# Altium footprint library 2.06-BGA、LGA、WCSP封装、DDR~LPDDR4_Nand Flash.PcbLib: 27 footprints (part 1 of 2)
Each footprint in its own frame and in the unit in brackets; x right, y up, seen from the top. Pads: shape width x height; smd on the part's side, far side on the other; paste and mask are expansions set on the pad; w line width, h text height; cw(c..) or ccw(c..) is an arc to the next point about the centre after c.
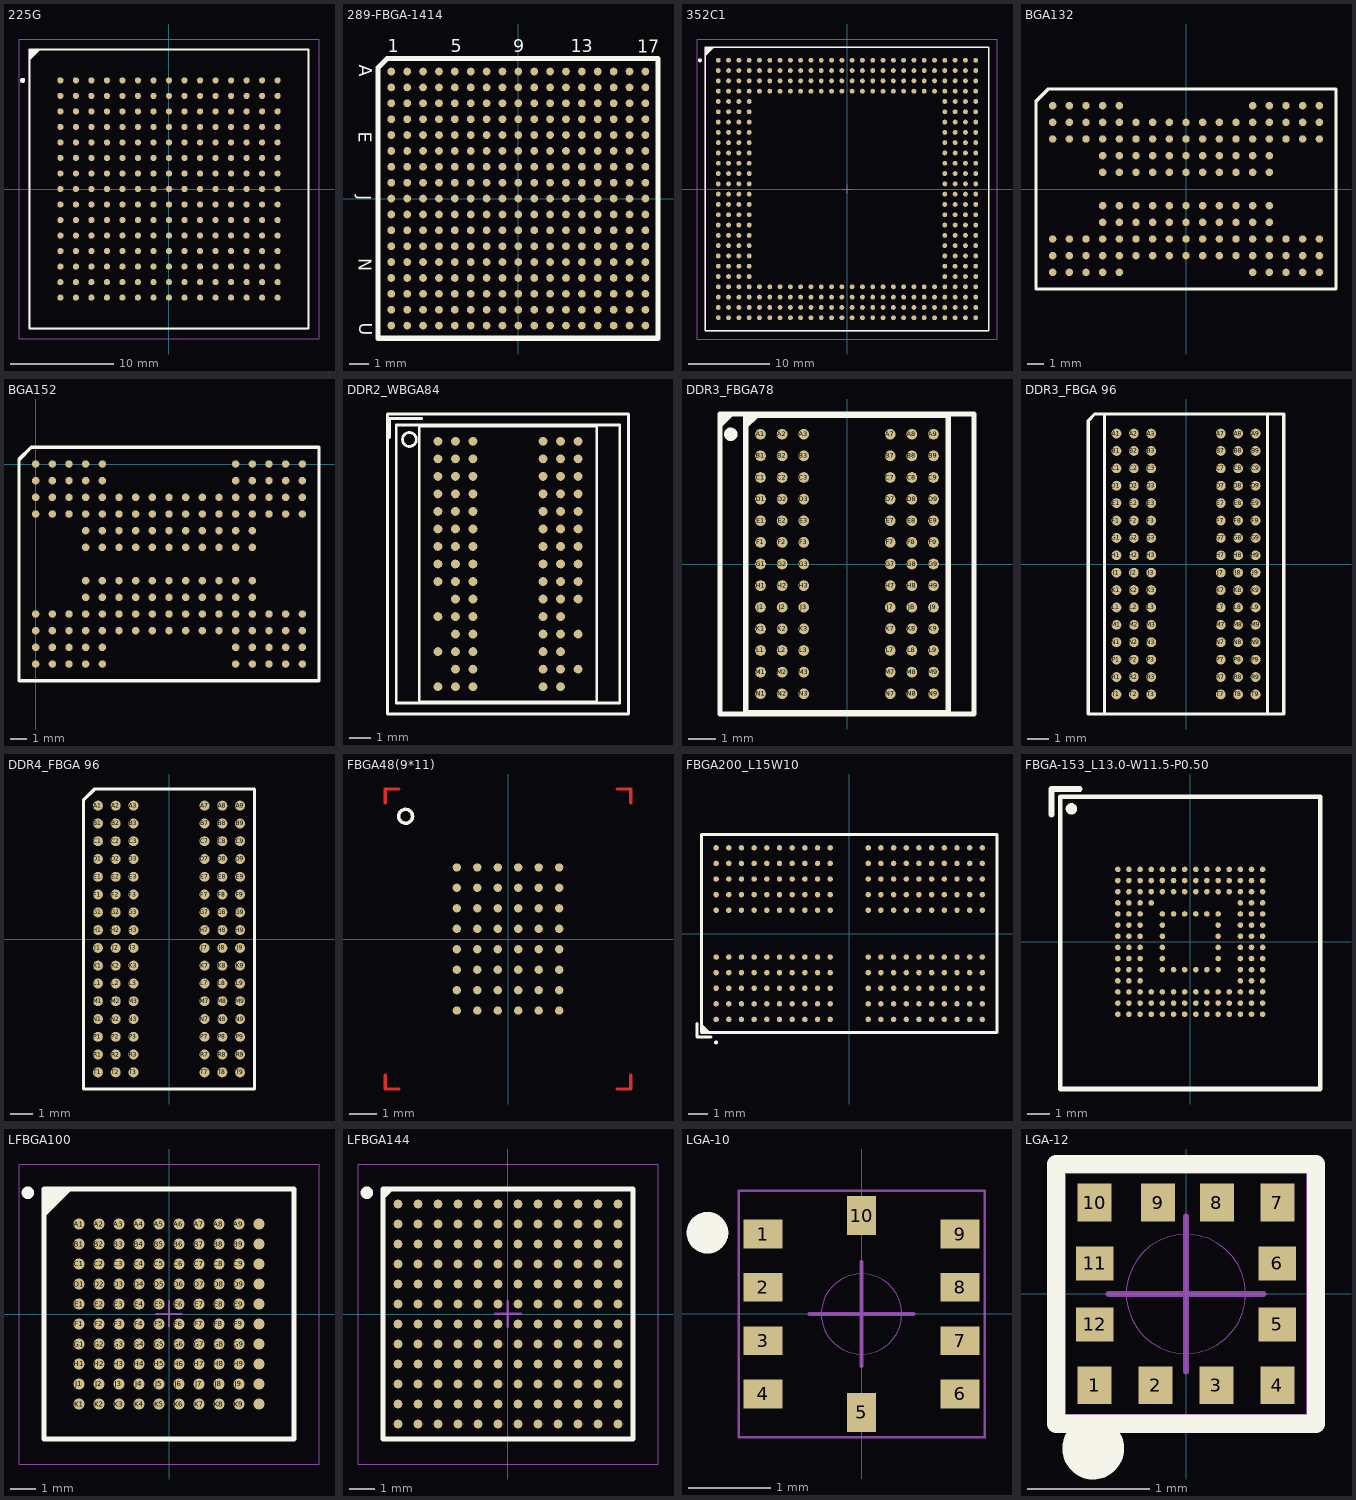
[diagram p0: the footprints below, top view; thin cyan lines are the x and y axes]

## 225G [mm] "225-Ball Ball Grid Array 1.5 mm Pitch"
height 1.53
pads (225):
  round 0.6 smd: A1(-10.5,10.5) A2(-9,10.5) A3(-7.5,10.5) A4(-6,10.5) A5(-4.5,10.5) A6(-3,10.5) A7(-1.5,10.5) A8(0,10.5) A9(1.5,10.5) A10(3,10.5) A11(4.5,10.5) A12(6,10.5) A13(7.5,10.5) A14(9,10.5) A15(10.5,10.5) B1(-10.5,9) B2(-9,9) B3(-7.5,9) B4(-6,9) B5(-4.5,9) B6(-3,9) B7(-1.5,9) B8(0,9) B9(1.5,9) B10(3,9) B11(4.5,9) B12(6,9) B13(7.5,9) B14(9,9) B15(10.5,9) C1(-10.5,7.5) C2(-9,7.5) C3(-7.5,7.5) C4(-6,7.5) C5(-4.5,7.5) C6(-3,7.5) C7(-1.5,7.5) C8(0,7.5) C9(1.5,7.5) C10(3,7.5) C11(4.5,7.5) C12(6,7.5) C13(7.5,7.5) C14(9,7.5) C15(10.5,7.5) D1(-10.5,6) D2(-9,6) D3(-7.5,6) D4(-6,6) D5(-4.5,6) D6(-3,6) D7(-1.5,6) D8(0,6) D9(1.5,6) D10(3,6) D11(4.5,6) D12(6,6) D13(7.5,6) D14(9,6) D15(10.5,6) E1(-10.5,4.5) E2(-9,4.5) E3(-7.5,4.5) E4(-6,4.5) E5(-4.5,4.5) E6(-3,4.5) E7(-1.5,4.5) E8(0,4.5) E9(1.5,4.5) E10(3,4.5) E11(4.5,4.5) E12(6,4.5) E13(7.5,4.5) E14(9,4.5) E15(10.5,4.5) F1(-10.5,3) F2(-9,3) F3(-7.5,3) F4(-6,3) F5(-4.5,3) F6(-3,3) F7(-1.5,3) F8(0,3) F9(1.5,3) F10(3,3) F11(4.5,3) F12(6,3) F13(7.5,3) F14(9,3) F15(10.5,3) G1(-10.5,1.5) G2(-9,1.5) G3(-7.5,1.5) G4(-6,1.5) G5(-4.5,1.5) G6(-3,1.5) G7(-1.5,1.5) G8(0,1.5) G9(1.5,1.5) G10(3,1.5) G11(4.5,1.5) G12(6,1.5) G13(7.5,1.5) G14(9,1.5) G15(10.5,1.5) H1(-10.5,0) H2(-9,0) H3(-7.5,0) H4(-6,0) H5(-4.5,0) H6(-3,0) H7(-1.5,0) H8(0,0) H9(1.5,0) H10(3,0) H11(4.5,0) H12(6,0) H13(7.5,0) H14(9,0) H15(10.5,0) J1(-10.5,-1.5) J2(-9,-1.5) J3(-7.5,-1.5) J4(-6,-1.5) J5(-4.5,-1.5) J6(-3,-1.5) J7(-1.5,-1.5) J8(0,-1.5) J9(1.5,-1.5) J10(3,-1.5) J11(4.5,-1.5) J12(6,-1.5) J13(7.5,-1.5) J14(9,-1.5) J15(10.5,-1.5) K1(-10.5,-3) K2(-9,-3) K3(-7.5,-3) K4(-6,-3) K5(-4.5,-3) K6(-3,-3) K7(-1.5,-3) K8(0,-3) K9(1.5,-3) K10(3,-3) K11(4.5,-3) K12(6,-3) K13(7.5,-3) K14(9,-3) K15(10.5,-3) L1(-10.5,-4.5) L2(-9,-4.5) L3(-7.5,-4.5) L4(-6,-4.5) L5(-4.5,-4.5) L6(-3,-4.5) L7(-1.5,-4.5) L8(0,-4.5) L9(1.5,-4.5) L10(3,-4.5) L11(4.5,-4.5) L12(6,-4.5) L13(7.5,-4.5) L14(9,-4.5) L15(10.5,-4.5) M1(-10.5,-6) M2(-9,-6) M3(-7.5,-6) M4(-6,-6) M5(-4.5,-6) M6(-3,-6) M7(-1.5,-6) M8(0,-6) M9(1.5,-6) M10(3,-6) M11(4.5,-6) M12(6,-6) M13(7.5,-6) M14(9,-6) M15(10.5,-6) N1(-10.5,-7.5) N2(-9,-7.5) N3(-7.5,-7.5) N4(-6,-7.5) N5(-4.5,-7.5) N6(-3,-7.5) N7(-1.5,-7.5) N8(0,-7.5) N9(1.5,-7.5) N10(3,-7.5) N11(4.5,-7.5) N12(6,-7.5) N13(7.5,-7.5) N14(9,-7.5) N15(10.5,-7.5) P1(-10.5,-9) P2(-9,-9) P3(-7.5,-9) P4(-6,-9) P5(-4.5,-9) P6(-3,-9) P7(-1.5,-9) P8(0,-9) P9(1.5,-9) P10(3,-9) P11(4.5,-9) P12(6,-9) P13(7.5,-9) P14(9,-9) P15(10.5,-9) R1(-10.5,-10.5) R2(-9,-10.5) R3(-7.5,-10.5) R4(-6,-10.5) R5(-4.5,-10.5) R6(-3,-10.5) R7(-1.5,-10.5) R8(0,-10.5) R9(1.5,-10.5) R10(3,-10.5) R11(4.5,-10.5) R12(6,-10.5) R13(7.5,-10.5) R14(9,-10.5) R15(10.5,-10.5)
Top Overlay:
  circle w0.25: c-14.15,10.5 r0.125
  region: -12.5,13.5 -13.5,12.5 -13.5,13.5
  lines w0.2: -13.5,12.5 -12.5,13.5 ; -13.5,-13.5 13.5,-13.5 13.5,13.5 -13.5,13.5 -13.5,-13.5
Mechanical 13:
  lines w0.1: -13.5,-13.5 13.5,-13.5 13.5,13.5 -13.5,13.5 -13.5,-13.5
Mechanical 15:
  lines w0.1: -0.5,0 0.5,0 ; 0,-0.5 0,0.5 ; -14.5,-14.5 14.5,-14.5 14.5,14.5 -14.5,14.5 -14.5,-14.5
3D body: height 1.53, standoff 0, extent -13.5,-13.5 13.5,13.5

## 289-FBGA-1414 [mm]
pads (289):
  round 0.39 smd: A1(-6.4,6.4) A2(-5.6,6.4) A3(-4.8,6.4) A4(-4,6.4) A5(-3.2,6.4) A6(-2.4,6.4) A7(-1.6,6.4) A8(-0.8,6.4) A9(0,6.4) A10(0.8,6.4) A11(1.6,6.4) A12(2.4,6.4) A13(3.2,6.4) A14(4,6.4) A15(4.8,6.4) A16(5.6,6.4) A17(6.4,6.4) B1(-6.4,5.6) B2(-5.6,5.6) B3(-4.8,5.6) B4(-4,5.6) B5(-3.2,5.6) B6(-2.4,5.6) B7(-1.6,5.6) B8(-0.8,5.6) B9(0,5.6) B10(0.8,5.6) B11(1.6,5.6) B12(2.4,5.6) B13(3.2,5.6) B14(4,5.6) B15(4.8,5.6) B16(5.6,5.6) B17(6.4,5.6) C1(-6.4,4.8) C2(-5.6,4.8) C3(-4.8,4.8) C4(-4,4.8) C5(-3.2,4.8) C6(-2.4,4.8) C7(-1.6,4.8) C8(-0.8,4.8) C9(0,4.8) C10(0.8,4.8) C11(1.6,4.8) C12(2.4,4.8) C13(3.2,4.8) C14(4,4.8) C15(4.8,4.8) C16(5.6,4.8) C17(6.4,4.8) D1(-6.4,4) D2(-5.6,4) D3(-4.8,4) D4(-4,4) D5(-3.2,4) D6(-2.4,4) D7(-1.6,4) D8(-0.8,4) D9(0,4) D10(0.8,4) D11(1.6,4) D12(2.4,4) D13(3.2,4) D14(4,4) D15(4.8,4) D16(5.6,4) D17(6.4,4) E1(-6.4,3.2) E2(-5.6,3.2) E3(-4.8,3.2) E4(-4,3.2) E5(-3.2,3.2) E6(-2.4,3.2) E7(-1.6,3.2) E8(-0.8,3.2) E9(0,3.2) E10(0.8,3.2) E11(1.6,3.2) E12(2.4,3.2) E13(3.2,3.2) E14(4,3.2) E15(4.8,3.2) E16(5.6,3.2) E17(6.4,3.2) F1(-6.4,2.4) F2(-5.6,2.4) F3(-4.8,2.4) F4(-4,2.4) F5(-3.2,2.4) F6(-2.4,2.4) F7(-1.6,2.4) F8(-0.8,2.4) F9(0,2.4) F10(0.8,2.4) F11(1.6,2.4) F12(2.4,2.4) F13(3.2,2.4) F14(4,2.4) F15(4.8,2.4) F16(5.6,2.4) F17(6.4,2.4) G1(-6.4,1.6) G2(-5.6,1.6) G3(-4.8,1.6) G4(-4,1.6) G5(-3.2,1.6) G6(-2.4,1.6) G7(-1.6,1.6) G8(-0.8,1.6) G9(0,1.6) G10(0.8,1.6) G11(1.6,1.6) G12(2.4,1.6) G13(3.2,1.6) G14(4,1.6) G15(4.8,1.6) G16(5.6,1.6) G17(6.4,1.6) H1(-6.4,0.8) H2(-5.6,0.8) H3(-4.8,0.8) H4(-4,0.8) H5(-3.2,0.8) H6(-2.4,0.8) H7(-1.6,0.8) H8(-0.8,0.8) H9(0,0.8) H10(0.8,0.8) H11(1.6,0.8) H12(2.4,0.8) H13(3.2,0.8) H14(4,0.8) H15(4.8,0.8) H16(5.6,0.8) H17(6.4,0.8) J1(-6.4,0) J2(-5.6,0) J3(-4.8,0) J4(-4,0) J5(-3.2,0) J6(-2.4,0) J7(-1.6,0) J8(-0.8,0) J9(0,0) J10(0.8,0) J11(1.6,0) J12(2.4,0) J13(3.2,0) J14(4,0) J15(4.8,0) J16(5.6,0) J17(6.4,0) K1(-6.4,-0.8) K2(-5.6,-0.8) K3(-4.8,-0.8) K4(-4,-0.8) K5(-3.2,-0.8) K6(-2.4,-0.8) K7(-1.6,-0.8) K8(-0.8,-0.8) K9(0,-0.8) K10(0.8,-0.8) K11(1.6,-0.8) K12(2.4,-0.8) K13(3.2,-0.8) K14(4,-0.8) K15(4.8,-0.8) K16(5.6,-0.8) K17(6.4,-0.8) L1(-6.4,-1.6) L2(-5.6,-1.6) L3(-4.8,-1.6) L4(-4,-1.6) L5(-3.2,-1.6) L6(-2.4,-1.6) L7(-1.6,-1.6) L8(-0.8,-1.6) L9(0,-1.6) L10(0.8,-1.6) L11(1.6,-1.6) L12(2.4,-1.6) L13(3.2,-1.6) L14(4,-1.6) L15(4.8,-1.6) L16(5.6,-1.6) L17(6.4,-1.6) M1(-6.4,-2.4) M2(-5.6,-2.4) M3(-4.8,-2.4) M4(-4,-2.4) M5(-3.2,-2.4) M6(-2.4,-2.4) M7(-1.6,-2.4) M8(-0.8,-2.4) M9(0,-2.4) M10(0.8,-2.4) M11(1.6,-2.4) M12(2.4,-2.4) M13(3.2,-2.4) M14(4,-2.4) M15(4.8,-2.4) M16(5.6,-2.4) M17(6.4,-2.4) N1(-6.4,-3.2) N2(-5.6,-3.2) N3(-4.8,-3.2) N4(-4,-3.2) N5(-3.2,-3.2) N6(-2.4,-3.2) N7(-1.6,-3.2) N8(-0.8,-3.2) N9(0,-3.2) N10(0.8,-3.2) N11(1.6,-3.2) N12(2.4,-3.2) N13(3.2,-3.2) N14(4,-3.2) N15(4.8,-3.2) N16(5.6,-3.2) N17(6.4,-3.2) P1(-6.4,-4) P2(-5.6,-4) P3(-4.8,-4) P4(-4,-4) P5(-3.2,-4) P6(-2.4,-4) P7(-1.6,-4) P8(-0.8,-4) P9(0,-4) P10(0.8,-4) P11(1.6,-4) P12(2.4,-4) P13(3.2,-4) P14(4,-4) P15(4.8,-4) P16(5.6,-4) P17(6.4,-4) R1(-6.4,-4.8) R2(-5.6,-4.8) R3(-4.8,-4.8) R4(-4,-4.8) R5(-3.2,-4.8) R6(-2.4,-4.8) R7(-1.6,-4.8) R8(-0.8,-4.8) R9(0,-4.8) R10(0.8,-4.8) R11(1.6,-4.8) R12(2.4,-4.8) R13(3.2,-4.8) R14(4,-4.8) R15(4.8,-4.8) R16(5.6,-4.8) R17(6.4,-4.8) T1(-6.4,-5.6) T2(-5.6,-5.6) T3(-4.8,-5.6) T4(-4,-5.6) T5(-3.2,-5.6) T6(-2.4,-5.6) T7(-1.6,-5.6) T8(-0.8,-5.6) T9(0,-5.6) T10(0.8,-5.6) T11(1.6,-5.6) T12(2.4,-5.6) T13(3.2,-5.6) T14(4,-5.6) T15(4.8,-5.6) T16(5.6,-5.6) T17(6.4,-5.6) U1(-6.4,-6.4) U2(-5.6,-6.4) U3(-4.8,-6.4) U4(-4,-6.4) U5(-3.2,-6.4) U6(-2.4,-6.4) U7(-1.6,-6.4) U8(-0.8,-6.4) U9(0,-6.4) U10(0.8,-6.4) U11(1.6,-6.4) U12(2.4,-6.4) U13(3.2,-6.4) U14(4,-6.4) U15(4.8,-6.4) U16(5.6,-6.4) U17(6.4,-6.4)
Top Overlay:
  lines w0.254: -7.062,6.324 -7.062,6.603 ; -6.452,7.06 -6.605,7.06 ; -7.062,6.603 -7.062,-7.037 7.035,-7.037 7.035,7.06 -6.605,7.06 ; -7.062,6.603 -6.605,7.06 ; -7.062,6.603 -6.605,7.06
  text "17" at 5.994,7.34 h0.64
  text "1" at -6.579,7.365 h0.64
  text "5" at -3.404,7.365 h0.64
  text "9" at -0.255,7.365 h0.64
  text "13" at 2.641,7.365 h0.64
  text "A" at -8.027,6.73 h0.64
  text "E" at -8.053,3.377 h0.64
  text "J" at -8.078,0.177 h0.64
  text "N" at -8.053,-2.998 h0.64
  text "U" at -8.027,-6.249 h0.64

## 352C1 [mm] "352-ball, 35 x 35, Enhanced, Low-profile Square Ball Grid Array Package (SBGA)"
height 1.7
pads (352):
  round 0.6 smd: A1(-15.875,15.875) A2(-14.605,15.875) A3(-13.335,15.875) A4(-12.065,15.875) A5(-10.795,15.875) A6(-9.525,15.875) A7(-8.255,15.875) A8(-6.985,15.875) A9(-5.715,15.875) A10(-4.445,15.875) A11(-3.175,15.875) A12(-1.905,15.875) A13(-0.635,15.875) A14(0.635,15.875) A15(1.905,15.875) A16(3.175,15.875) A17(4.445,15.875) A18(5.715,15.875) A19(6.985,15.875) A20(8.255,15.875) A21(9.525,15.875) A22(10.795,15.875) A23(12.065,15.875) A24(13.335,15.875) A25(14.605,15.875) A26(15.875,15.875) AA1(-15.875,-9.525) AA2(-14.605,-9.525) AA3(-13.335,-9.525) AA4(-12.065,-9.525) AA23(12.065,-9.525) AA24(13.335,-9.525) AA25(14.605,-9.525) AA26(15.875,-9.525) AB1(-15.875,-10.795) AB2(-14.605,-10.795) AB3(-13.335,-10.795) AB4(-12.065,-10.795) AB23(12.065,-10.795) AB24(13.335,-10.795) AB25(14.605,-10.795) AB26(15.875,-10.795) AC1(-15.875,-12.065) AC2(-14.605,-12.065) AC3(-13.335,-12.065) AC4(-12.065,-12.065) AC5(-10.795,-12.065) AC6(-9.525,-12.065) AC7(-8.255,-12.065) AC8(-6.985,-12.065) AC9(-5.715,-12.065) AC10(-4.445,-12.065) AC11(-3.175,-12.065) AC12(-1.905,-12.065) AC13(-0.635,-12.065) AC14(0.635,-12.065) AC15(1.905,-12.065) AC16(3.175,-12.065) AC17(4.445,-12.065) AC18(5.715,-12.065) AC19(6.985,-12.065) AC20(8.255,-12.065) AC21(9.525,-12.065) AC22(10.795,-12.065) AC23(12.065,-12.065) AC24(13.335,-12.065) AC25(14.605,-12.065) AC26(15.875,-12.065) AD1(-15.875,-13.335) AD2(-14.605,-13.335) AD3(-13.335,-13.335) AD4(-12.065,-13.335) AD5(-10.795,-13.335) AD6(-9.525,-13.335) AD7(-8.255,-13.335) AD8(-6.985,-13.335) AD9(-5.715,-13.335) AD10(-4.445,-13.335) AD11(-3.175,-13.335) AD12(-1.905,-13.335) AD13(-0.635,-13.335) AD14(0.635,-13.335) AD15(1.905,-13.335) AD16(3.175,-13.335) AD17(4.445,-13.335) AD18(5.715,-13.335) AD19(6.985,-13.335) AD20(8.255,-13.335) AD21(9.525,-13.335) AD22(10.795,-13.335) AD23(12.065,-13.335) AD24(13.335,-13.335) AD25(14.605,-13.335) AD26(15.875,-13.335) AE1(-15.875,-14.605) AE2(-14.605,-14.605) AE3(-13.335,-14.605) AE4(-12.065,-14.605) AE5(-10.795,-14.605) AE6(-9.525,-14.605) AE7(-8.255,-14.605) AE8(-6.985,-14.605) AE9(-5.715,-14.605) AE10(-4.445,-14.605) AE11(-3.175,-14.605) AE12(-1.905,-14.605) AE13(-0.635,-14.605) AE14(0.635,-14.605) AE15(1.905,-14.605) AE16(3.175,-14.605) AE17(4.445,-14.605) AE18(5.715,-14.605) AE19(6.985,-14.605) AE20(8.255,-14.605) AE21(9.525,-14.605) AE22(10.795,-14.605) AE23(12.065,-14.605) AE24(13.335,-14.605) AE25(14.605,-14.605) AE26(15.875,-14.605) AF1(-15.875,-15.875) AF2(-14.605,-15.875) AF3(-13.335,-15.875) AF4(-12.065,-15.875) AF5(-10.795,-15.875) AF6(-9.525,-15.875) AF7(-8.255,-15.875) AF8(-6.985,-15.875) AF9(-5.715,-15.875) AF10(-4.445,-15.875) AF11(-3.175,-15.875) AF12(-1.905,-15.875) AF13(-0.635,-15.875) AF14(0.635,-15.875) AF15(1.905,-15.875) AF16(3.175,-15.875) AF17(4.445,-15.875) AF18(5.715,-15.875) AF19(6.985,-15.875) AF20(8.255,-15.875) AF21(9.525,-15.875) AF22(10.795,-15.875) AF23(12.065,-15.875) AF24(13.335,-15.875) AF25(14.605,-15.875) AF26(15.875,-15.875) B1(-15.875,14.605) B2(-14.605,14.605) B3(-13.335,14.605) B4(-12.065,14.605) B5(-10.795,14.605) B6(-9.525,14.605) B7(-8.255,14.605) B8(-6.985,14.605) B9(-5.715,14.605) B10(-4.445,14.605) B11(-3.175,14.605) B12(-1.905,14.605) B13(-0.635,14.605) B14(0.635,14.605) B15(1.905,14.605) B16(3.175,14.605) B17(4.445,14.605) B18(5.715,14.605) B19(6.985,14.605) B20(8.255,14.605) B21(9.525,14.605) B22(10.795,14.605) B23(12.065,14.605) B24(13.335,14.605) B25(14.605,14.605) B26(15.875,14.605) C1(-15.875,13.335) C2(-14.605,13.335) C3(-13.335,13.335) C4(-12.065,13.335) C5(-10.795,13.335) C6(-9.525,13.335) C7(-8.255,13.335) C8(-6.985,13.335) C9(-5.715,13.335) C10(-4.445,13.335) C11(-3.175,13.335) C12(-1.905,13.335) C13(-0.635,13.335) C14(0.635,13.335) C15(1.905,13.335) C16(3.175,13.335) C17(4.445,13.335) C18(5.715,13.335) C19(6.985,13.335) C20(8.255,13.335) C21(9.525,13.335) C22(10.795,13.335) C23(12.065,13.335) C24(13.335,13.335) C25(14.605,13.335) C26(15.875,13.335) D1(-15.875,12.065) D2(-14.605,12.065) D3(-13.335,12.065) D4(-12.065,12.065) D5(-10.795,12.065) D6(-9.525,12.065) D7(-8.255,12.065) D8(-6.985,12.065) D9(-5.715,12.065) D10(-4.445,12.065) D11(-3.175,12.065) D12(-1.905,12.065) D13(-0.635,12.065) D14(0.635,12.065) D15(1.905,12.065) D16(3.175,12.065) D17(4.445,12.065) D18(5.715,12.065) D19(6.985,12.065) D20(8.255,12.065) D21(9.525,12.065) D22(10.795,12.065) D23(12.065,12.065) D24(13.335,12.065) D25(14.605,12.065) D26(15.875,12.065) E1(-15.875,10.795) E2(-14.605,10.795) E3(-13.335,10.795) E4(-12.065,10.795) E23(12.065,10.795) E24(13.335,10.795) E25(14.605,10.795) E26(15.875,10.795) F1(-15.875,9.525) F2(-14.605,9.525) F3(-13.335,9.525) F4(-12.065,9.525) F23(12.065,9.525) F24(13.335,9.525) F25(14.605,9.525) F26(15.875,9.525) G1(-15.875,8.255) G2(-14.605,8.255) G3(-13.335,8.255) G4(-12.065,8.255) G23(12.065,8.255) G24(13.335,8.255) G25(14.605,8.255) G26(15.875,8.255) H1(-15.875,6.985) H2(-14.605,6.985) H3(-13.335,6.985) H4(-12.065,6.985) H23(12.065,6.985) H24(13.335,6.985) H25(14.605,6.985) H26(15.875,6.985) J1(-15.875,5.715) J2(-14.605,5.715) J3(-13.335,5.715) J4(-12.065,5.715) J23(12.065,5.715) J24(13.335,5.715) J25(14.605,5.715) J26(15.875,5.715) K1(-15.875,4.445) K2(-14.605,4.445) K3(-13.335,4.445) K4(-12.065,4.445) K23(12.065,4.445) K24(13.335,4.445) K25(14.605,4.445) K26(15.875,4.445) L1(-15.875,3.175) L2(-14.605,3.175) L3(-13.335,3.175) L4(-12.065,3.175) L23(12.065,3.175) L24(13.335,3.175) L25(14.605,3.175) L26(15.875,3.175) M1(-15.875,1.905) M2(-14.605,1.905) M3(-13.335,1.905) M4(-12.065,1.905) M23(12.065,1.905) M24(13.335,1.905) M25(14.605,1.905) M26(15.875,1.905) N1(-15.875,0.635) N2(-14.605,0.635) N3(-13.335,0.635) N4(-12.065,0.635) N23(12.065,0.635) N24(13.335,0.635) N25(14.605,0.635) N26(15.875,0.635) P1(-15.875,-0.635) P2(-14.605,-0.635) P3(-13.335,-0.635) P4(-12.065,-0.635) P23(12.065,-0.635) P24(13.335,-0.635) P25(14.605,-0.635) P26(15.875,-0.635) R1(-15.875,-1.905) R2(-14.605,-1.905) R3(-13.335,-1.905) R4(-12.065,-1.905) R23(12.065,-1.905) R24(13.335,-1.905) R25(14.605,-1.905) R26(15.875,-1.905) T1(-15.875,-3.175) T2(-14.605,-3.175) T3(-13.335,-3.175) T4(-12.065,-3.175) T23(12.065,-3.175) T24(13.335,-3.175) T25(14.605,-3.175) T26(15.875,-3.175) U1(-15.875,-4.445) U2(-14.605,-4.445) U3(-13.335,-4.445) U4(-12.065,-4.445) U23(12.065,-4.445) U24(13.335,-4.445) U25(14.605,-4.445) U26(15.875,-4.445) V1(-15.875,-5.715) V2(-14.605,-5.715) V3(-13.335,-5.715) V4(-12.065,-5.715) V23(12.065,-5.715) V24(13.335,-5.715) V25(14.605,-5.715) V26(15.875,-5.715) W1(-15.875,-6.985) W2(-14.605,-6.985) W3(-13.335,-6.985) W4(-12.065,-6.985) W23(12.065,-6.985) W24(13.335,-6.985) W25(14.605,-6.985) W26(15.875,-6.985) Y1(-15.875,-8.255) Y2(-14.605,-8.255) Y3(-13.335,-8.255) Y4(-12.065,-8.255) Y23(12.065,-8.255) Y24(13.335,-8.255) Y25(14.605,-8.255) Y26(15.875,-8.255)
Top Overlay:
  circle w0.25: c-18.15,15.875 r0.125
  region: -16.5,17.5 -17.5,16.5 -17.5,17.5
  lines w0.2: -17.5,16.5 -16.5,17.5 ; -17.5,-17.5 -17.5,17.5 17.5,17.5 17.5,-17.5 -17.5,-17.5
Mechanical 13:
  lines w0.1: -17.5,-17.5 -17.5,17.5 17.5,17.5 17.5,-17.5 -17.5,-17.5
Mechanical 15:
  lines w0.1: -0.5,0 0.5,0 ; 0,-0.5 0,0.5 ; -18.5,-18.5 -18.5,18.5 18.5,18.5 18.5,-18.5 -18.5,-18.5
3D body: height 1.7, standoff 0, extent -17.5,-17.5 17.5,17.5

## BGA132 [mm] "封装库来自淘宝卖家 ID：黄晶宝石"
pads (132):
  round 0.45 smd: B1(-8,5) B2(-7,5) B3(-6,5) B4(-5,5) B5(-4,5) B13(4,5) B14(5,5) B15(6,5) B16(7,5) B17(8,5) C1(-8,4) C2(-7,4) C3(-6,4) C4(-5,4) C5(-4,4) C6(-3,4) C7(-2,4) C8(-1,4) C9(0,4) C10(1,4) C11(2,4) C12(3,4) C13(4,4) C14(5,4) C15(6,4) C16(7,4) C17(8,4) D1(-8,3) D2(-7,3) D3(-6,3) D4(-5,3) D5(-4,3) D6(-3,3) D7(-2,3) D8(-1,3) D9(0,3) D10(1,3) D11(2,3) D12(3,3) D13(4,3) D14(5,3) D15(6,3) D16(7,3) D17(8,3) E4(-5,2) E5(-4,2) E6(-3,2) E7(-2,2) E8(-1,2) E9(0,2) E10(1,2) E11(2,2) E12(3,2) E13(4,2) E14(5,2) F4(-5,1) F5(-4,1) F6(-3,1) F7(-2,1) F8(-1,1) F9(0,1) F10(1,1) F11(2,1) F12(3,1) F13(4,1) F14(5,1) H4(-5,-1) H5(-4,-1) H6(-3,-1) H7(-2,-1) H8(-1,-1) H9(0,-1) H10(1,-1) H11(2,-1) H12(3,-1) H13(4,-1) H14(5,-1) J4(-5,-2) J5(-4,-2) J6(-3,-2) J7(-2,-2) J8(-1,-2) J9(0,-2) J10(1,-2) J11(2,-2) J12(3,-2) J13(4,-2) J14(5,-2) K1(-8,-3) K2(-7,-3) K3(-6,-3) K4(-5,-3) K5(-4,-3) K6(-3,-3) K7(-2,-3) K8(-1,-3) K9(0,-3) K10(1,-3) K11(2,-3) K12(3,-3) K13(4,-3) K14(5,-3) K15(6,-3) K16(7,-3) K17(8,-3) L1(-8,-4) L2(-7,-4) L3(-6,-4) L4(-5,-4) L5(-4,-4) L6(-3,-4) L7(-2,-4) L8(-1,-4) L9(0,-4) L10(1,-4) L11(2,-4) L12(3,-4) L13(4,-4) L14(5,-4) L15(6,-4) L16(7,-4) L17(8,-4) M1(-8,-5) M2(-7,-5) M3(-6,-5) M4(-5,-5) M5(-4,-5) M13(4,-5) M14(5,-5) M15(6,-5) M16(7,-5) M17(8,-5)
Top Overlay:
  lines w0.2: 9,-6 -9,-6 -9,5.27 -8.27,6 9,6 ; 9,-5.969 9,5.969
3D body: height 0.8, standoff 0.3, extent -9.017,-5.969 9.017,5.969

## BGA152 [mm] "https://shop463601444.taobao.com"
pads (152):
  round 0.45 smd: A1(0,0) A2(1,0) A3(2,0) A4(3,0) A5(4,0) A13(12,0) A14(13,0) A15(14,0) A16(15,0) A17(16,0) B1(0,-1) B2(1,-1) B3(2,-1) B4(3,-1) B5(4,-1) B13(12,-1) B14(13,-1) B15(14,-1) B16(15,-1) B17(16,-1) C1(0,-2) C2(1,-2) C3(2,-2) C4(3,-2) C5(4,-2) C6(5,-2) C7(6,-2) C8(7,-2) C9(8,-2) C10(9,-2) C11(10,-2) C12(11,-2) C13(12,-2) C14(13,-2) C15(14,-2) C16(15,-2) C17(16,-2) D1(0,-3) D2(1,-3) D3(2,-3) D4(3,-3) D5(4,-3) D6(5,-3) D7(6,-3) D8(7,-3) D9(8,-3) D10(9,-3) D11(10,-3) D12(11,-3) D13(12,-3) D14(13,-3) D15(14,-3) D16(15,-3) D17(16,-3) E4(3,-4) E5(4,-4) E6(5,-4) E7(6,-4) E8(7,-4) E9(8,-4) E10(9,-4) E11(10,-4) E12(11,-4) E13(12,-4) E14(13,-4) F4(3,-5) F5(4,-5) F6(5,-5) F7(6,-5) F8(7,-5) F9(8,-5) F10(9,-5) F11(10,-5) F12(11,-5) F13(12,-5) F14(13,-5) H4(3,-7) H5(4,-7) H6(5,-7) H7(6,-7) H8(7,-7) H9(8,-7) H10(9,-7) H11(10,-7) H12(11,-7) H13(12,-7) H14(13,-7) J4(3,-8) J5(4,-8) J6(5,-8) J7(6,-8) J8(7,-8) J9(8,-8) J10(9,-8) J11(10,-8) J12(11,-8) J13(12,-8) J14(13,-8) K1(0,-9) K2(1,-9) K3(2,-9) K4(3,-9) K5(4,-9) K6(5,-9) K7(6,-9) K8(7,-9) K9(8,-9) K10(9,-9) K11(10,-9) K12(11,-9) K13(12,-9) K14(13,-9) K15(14,-9) K16(15,-9) K17(16,-9) L1(0,-10) L2(1,-10) L3(2,-10) L4(3,-10) L5(4,-10) L6(5,-10) L7(6,-10) L8(7,-10) L9(8,-10) L10(9,-10) L11(10,-10) L12(11,-10) L13(12,-10) L14(13,-10) L15(14,-10) L16(15,-10) L17(16,-10) M1(0,-11) M2(1,-11) M3(2,-11) M4(3,-11) M5(4,-11) M13(12,-11) M14(13,-11) M15(14,-11) M16(15,-11) M17(16,-11) N1(0,-12) N2(1,-12) N3(2,-12) N4(3,-12) N5(4,-12) N13(12,-12) N14(13,-12) N15(14,-12) N16(15,-12) N17(16,-12)
Top Overlay:
  lines w0.2: -1,-13 -1,0.27 -0.27,1 17,1 17,-13 -1,-13

## DDR2_WBGA84 [mm] "W9751G6IB"
pads (84):
  round 0.4 smd: A1(-57.683,37.401) A2(-56.883,37.401) A3(-56.083,37.401) A7(-52.883,37.401) A8(-52.083,37.401) A9(-51.283,37.401) B1(-57.683,36.601) B2(-56.883,36.601) B3(-56.083,36.601) B7(-52.883,36.601) B8(-52.083,36.601) B9(-51.283,36.601) C1(-57.683,35.801) C2(-56.883,35.801) C3(-56.083,35.801) C7(-52.883,35.801) C8(-52.083,35.801) C9(-51.283,35.801) D1(-57.683,35.001) D2(-56.883,35.001) D3(-56.083,35.001) D7(-52.883,35.001) D8(-52.083,35.001) D9(-51.283,35.001) E1(-57.683,34.201) E2(-56.883,34.201) E3(-56.083,34.201) E7(-52.883,34.201) E8(-52.083,34.201) E9(-51.283,34.201) F1(-57.683,33.401) F2(-56.883,33.401) F3(-56.083,33.401) F7(-52.883,33.401) F8(-52.083,33.401) F9(-51.283,33.401) G1(-57.683,32.601) G2(-56.883,32.601) G3(-56.083,32.601) G7(-52.883,32.601) G8(-52.083,32.601) G9(-51.283,32.601) H1(-57.683,31.801) H2(-56.883,31.801) H3(-56.083,31.801) H7(-52.883,31.801) H8(-52.083,31.801) H9(-51.283,31.801) J1(-57.683,31.001) J2(-56.883,31.001) J3(-56.083,31.001) J7(-52.883,31.001) J8(-52.083,31.001) J9(-51.283,31.001) K2(-56.883,30.201) K3(-56.083,30.201) K7(-52.883,30.201) K8(-52.083,30.201) K9(-51.283,30.201) L1(-57.683,29.401) L2(-56.883,29.401) L3(-56.083,29.401) L7(-52.883,29.401) L8(-52.083,29.401) M2(-56.883,28.601) M3(-56.083,28.601) M7(-52.883,28.601) M8(-52.083,28.601) M9(-51.283,28.601) N1(-57.683,27.801) N2(-56.883,27.801) N3(-56.083,27.801) N7(-52.883,27.801) N8(-52.083,27.801) P2(-56.883,27.001) P3(-56.083,27.001) P7(-52.883,27.001) P8(-52.083,27.001) P9(-51.283,27.001) R1(-57.683,26.201) R2(-56.883,26.201) R3(-56.083,26.201) R7(-52.883,26.201) R8(-52.083,26.201)
Top Overlay:
  circle w0.127: c-58.986,37.487 r0.318
  lines w0.127: -59.891,37.572 -59.891,38.451 -58.42,38.451 ; -59.983,24.951 -59.983,38.651 -48.983,38.651 -48.983,24.951 -59.983,24.951 ; -59.583,25.451 -59.583,38.151 -49.383,38.151 -49.383,25.451 -59.583,25.451 ; -58.533,25.501 -58.533,38.101 -50.433,38.101 -50.433,25.501 -58.533,25.501
3D body: height 0.9, standoff 0.2, extent -58.5,25.5 -50.5,38

## DDR3_FBGA78 [mil] "DDR3 RAM,淘宝ID：https://shop379194662.taobao.com"
pads (78):
  round 15.7 smd: A1(-126,189) A2(-94.5,189) A3(-63,189) A7(63,189) A8(94.5,189) A9(126,189) B1(-126,157.5) B2(-94.5,157.5) B3(-63,157.5) B7(63,157.5) B8(94.5,157.5) B9(126,157.5) C1(-126,126) C2(-94.5,126) C3(-63,126) C7(63,126) C8(94.5,126) C9(126,126) D1(-126,94.5) D2(-94.5,94.5) D3(-63,94.5) D7(63,94.5) D8(94.5,94.5) D9(126,94.5) E1(-126,63) E2(-94.5,63) E3(-63,63) E7(63,63) E8(94.5,63) E9(126,63) F1(-126,31.5) F2(-94.5,31.5) F3(-63,31.5) F7(63,31.5) F8(94.5,31.5) F9(126,31.5) G1(-126,0) G2(-94.5,0) G3(-63,0) G7(63,0) G8(94.5,0) G9(126,0) H1(-126,-31.5) H2(-94.5,-31.5) H3(-63,-31.5) H7(63,-31.5) H8(94.5,-31.5) H9(126,-31.5) J1(-126,-63) J2(-94.5,-63) J3(-63,-63) J7(63,-63) J8(94.5,-63) J9(126,-63) K1(-126,-94.5) K2(-94.5,-94.5) K3(-63,-94.5) K7(63,-94.5) K8(94.5,-94.5) K9(126,-94.5) L1(-126,-126) L2(-94.5,-126) L3(-63,-126) L7(63,-126) L8(94.5,-126) L9(126,-126) M1(-126,-157.5) M2(-94.5,-157.5) M3(-63,-157.5) M7(63,-157.5) M8(94.5,-157.5) M9(126,-157.5) N1(-126,-189) N2(-94.5,-189) N3(-63,-189) N7(63,-189) N8(94.5,-189) N9(126,-189)
Top Overlay:
  circle w9.8: c-169.3,189 r4.9
  lines w7.9: -185,202.8 -169.3,218.5 -177.2,218.5 -185,210.6 ; -147.6,200.8 -131.9,216.5 -139.8,216.5 -147.6,208.7 ; -185,-218.5 -185,218.5 185,218.5 185,-218.5 -185,-218.5 ; -147.6,-216.5 -147.6,216.5 147.6,216.5 147.6,-216.5 -147.6,-216.5
3D body: height 35.43, standoff 7.87, extent -145.67,-216.54 145.67,216.54

## DDR3_FBGA 96 [mm] "封装库来自淘宝卖家 ID：黄晶宝石"
pads (96):
  round 0.45 smd: A1(-3.2,6) A2(-2.4,6) A3(-1.6,6) A7(1.6,6) A8(2.4,6) A9(3.2,6) B1(-3.2,5.2) B2(-2.4,5.2) B3(-1.6,5.2) B7(1.6,5.2) B8(2.4,5.2) B9(3.2,5.2) C1(-3.2,4.4) C2(-2.4,4.4) C3(-1.6,4.4) C7(1.6,4.4) C8(2.4,4.4) C9(3.2,4.4) D1(-3.2,3.6) D2(-2.4,3.6) D3(-1.6,3.6) D7(1.6,3.6) D8(2.4,3.6) D9(3.2,3.6) E1(-3.2,2.8) E2(-2.4,2.8) E3(-1.6,2.8) E7(1.6,2.8) E8(2.4,2.8) E9(3.2,2.8) F1(-3.2,2) F2(-2.4,2) F3(-1.6,2) F7(1.6,2) F8(2.4,2) F9(3.2,2) G1(-3.2,1.2) G2(-2.4,1.2) G3(-1.6,1.2) G7(1.6,1.2) G8(2.4,1.2) G9(3.2,1.2) H1(-3.2,0.4) H2(-2.4,0.4) H3(-1.6,0.4) H7(1.6,0.4) H8(2.4,0.4) H9(3.2,0.4) J1(-3.2,-0.4) J2(-2.4,-0.4) J3(-1.6,-0.4) J7(1.6,-0.4) J8(2.4,-0.4) J9(3.2,-0.4) K1(-3.2,-1.2) K2(-2.4,-1.2) K3(-1.6,-1.2) K7(1.6,-1.2) K8(2.4,-1.2) K9(3.2,-1.2) L1(-3.2,-2) L2(-2.4,-2) L3(-1.6,-2) L7(1.6,-2) L8(2.4,-2) L9(3.2,-2) M1(-3.2,-2.8) M2(-2.4,-2.8) M3(-1.6,-2.8) M7(1.6,-2.8) M8(2.4,-2.8) M9(3.2,-2.8) N1(-3.2,-3.6) N2(-2.4,-3.6) N3(-1.6,-3.6) N7(1.6,-3.6) N8(2.4,-3.6) N9(3.2,-3.6) P1(-3.2,-4.4) P2(-2.4,-4.4) P3(-1.6,-4.4) P7(1.6,-4.4) P8(2.4,-4.4) P9(3.2,-4.4) R1(-3.2,-5.2) R2(-2.4,-5.2) R3(-1.6,-5.2) R7(1.6,-5.2) R8(2.4,-5.2) R9(3.2,-5.2) T1(-3.2,-6) T2(-2.4,-6) T3(-1.6,-6) T7(1.6,-6) T8(2.4,-6) T9(3.2,-6)
Top Overlay:
  lines w0.152: -4.5,-6.9 4.5,-6.9 4.5,6.9 -4.2,6.9 -4.5,6.6 -4.5,-6.9 ; -3.75,-6.9 -3.75,6.9 3.75,6.9 3.75,-6.9 -3.75,-6.9
3D body: height 0.9, standoff 0.2, extent -4.5,-6.9 4.5,6.9

## DDR4_FBGA 96 [mm] "封装库来自淘宝卖家 ID：黄晶宝石"
pads (96):
  round 0.45 smd: A1(-3.2,6) A2(-2.4,6) A3(-1.6,6) A7(1.6,6) A8(2.4,6) A9(3.2,6) B1(-3.2,5.2) B2(-2.4,5.2) B3(-1.6,5.2) B7(1.6,5.2) B8(2.4,5.2) B9(3.2,5.2) C1(-3.2,4.4) C2(-2.4,4.4) C3(-1.6,4.4) C7(1.6,4.4) C8(2.4,4.4) C9(3.2,4.4) D1(-3.2,3.6) D2(-2.4,3.6) D3(-1.6,3.6) D7(1.6,3.6) D8(2.4,3.6) D9(3.2,3.6) E1(-3.2,2.8) E2(-2.4,2.8) E3(-1.6,2.8) E7(1.6,2.8) E8(2.4,2.8) E9(3.2,2.8) F1(-3.2,2) F2(-2.4,2) F3(-1.6,2) F7(1.6,2) F8(2.4,2) F9(3.2,2) G1(-3.2,1.2) G2(-2.4,1.2) G3(-1.6,1.2) G7(1.6,1.2) G8(2.4,1.2) G9(3.2,1.2) H1(-3.2,0.4) H2(-2.4,0.4) H3(-1.6,0.4) H7(1.6,0.4) H8(2.4,0.4) H9(3.2,0.4) J1(-3.2,-0.4) J2(-2.4,-0.4) J3(-1.6,-0.4) J7(1.6,-0.4) J8(2.4,-0.4) J9(3.2,-0.4) K1(-3.2,-1.2) K2(-2.4,-1.2) K3(-1.6,-1.2) K7(1.6,-1.2) K8(2.4,-1.2) K9(3.2,-1.2) L1(-3.2,-2) L2(-2.4,-2) L3(-1.6,-2) L7(1.6,-2) L8(2.4,-2) L9(3.2,-2) M1(-3.2,-2.8) M2(-2.4,-2.8) M3(-1.6,-2.8) M7(1.6,-2.8) M8(2.4,-2.8) M9(3.2,-2.8) N1(-3.2,-3.6) N2(-2.4,-3.6) N3(-1.6,-3.6) N7(1.6,-3.6) N8(2.4,-3.6) N9(3.2,-3.6) P1(-3.2,-4.4) P2(-2.4,-4.4) P3(-1.6,-4.4) P7(1.6,-4.4) P8(2.4,-4.4) P9(3.2,-4.4) R1(-3.2,-5.2) R2(-2.4,-5.2) R3(-1.6,-5.2) R7(1.6,-5.2) R8(2.4,-5.2) R9(3.2,-5.2) T1(-3.2,-6) T2(-2.4,-6) T3(-1.6,-6) T7(1.6,-6) T8(2.4,-6) T9(3.2,-6)
Top Overlay:
  lines w0.152: 3.85,-6.75 -3.85,-6.75 -3.85,6.25 -3.35,6.75 3.85,6.75 3.85,-6.725
3D body: height 0.8, standoff 0.3, extent -3.75,-6.65 3.75,6.65

## FBGA48(9*11) [mm] "https://shop463601444.taobao.com"
pads (48):
  round 0.305 smd: A1(-1.875,2.625) A2(-1.125,2.625) A3(-0.375,2.625) A4(0.375,2.625) A5(1.125,2.625) A6(1.875,2.625) B1(-1.875,1.875) B2(-1.125,1.875) B3(-0.375,1.875) B4(0.375,1.875) B5(1.125,1.875) B6(1.875,1.875) C1(-1.875,1.125) C2(-1.125,1.125) C3(-0.375,1.125) C4(0.375,1.125) C5(1.125,1.125) C6(1.875,1.125) D1(-1.875,0.375) D2(-1.125,0.375) D3(-0.375,0.375) D4(0.375,0.375) D5(1.125,0.375) D6(1.875,0.375) E1(-1.875,-0.375) E2(-1.125,-0.375) E3(-0.375,-0.375) E4(0.375,-0.375) E5(1.125,-0.375) E6(1.875,-0.375) F1(-1.875,-1.125) F2(-1.125,-1.125) F3(-0.375,-1.125) F4(0.375,-1.125) F5(1.125,-1.125) F6(1.875,-1.125) G1(-1.875,-1.875) G2(-1.125,-1.875) G3(-0.375,-1.875) G4(0.375,-1.875) G5(1.125,-1.875) G6(1.875,-1.875) H1(-1.875,-2.625) H2(-1.125,-2.625) H3(-0.375,-2.625) H4(0.375,-2.625) H5(1.125,-2.625) H6(1.875,-2.625)
Top Layer:
  lines w0.127: -4.5,-5 -4.5,-5.5 -4,-5.5 ; -4.5,5 -4.5,5.5 -4,5.5 ; 4,-5.5 4.5,-5.5 4.5,-5 ; 4,5.5 4.5,5.5 4.5,5
Top Overlay:
  circle w0.127: c-3.754,4.5 r0.254
3D body: height 0.4, standoff 0.1, extent -4.5,-5.5 4.5,5.5

## FBGA200_L15W10 [mm]
pads (200):
  round 0.28 smd: A1(-6.825,-4.4) A2(-6.825,-3.6) A3(-6.825,-2.8) A4(-6.825,-2) A5(-6.825,-1.2) A8(-6.825,1.2) A9(-6.825,2) A10(-6.825,2.8) A11(-6.825,3.6) A12(-6.825,4.4) AA1(6.175,-4.4) AA2(6.175,-3.6) AA3(6.175,-2.8) AA4(6.175,-2) AA5(6.175,-1.2) AA8(6.175,1.2) AA9(6.175,2) AA10(6.175,2.8) AA11(6.175,3.6) AA12(6.175,4.4) AB1(6.825,-4.4) AB2(6.825,-3.6) AB3(6.825,-2.8) AB4(6.825,-2) AB5(6.825,-1.2) AB8(6.825,1.2) AB9(6.825,2) AB10(6.825,2.8) AB11(6.825,3.6) AB12(6.825,4.4) B1(-6.175,-4.4) B2(-6.175,-3.6) B3(-6.175,-2.8) B4(-6.175,-2) B5(-6.175,-1.2) B8(-6.175,1.2) B9(-6.175,2) B10(-6.175,2.8) B11(-6.175,3.6) B12(-6.175,4.4) C1(-5.525,-4.4) C2(-5.525,-3.6) C3(-5.525,-2.8) C4(-5.525,-2) C5(-5.525,-1.2) C8(-5.525,1.2) C9(-5.525,2) C10(-5.525,2.8) C11(-5.525,3.6) C12(-5.525,4.4) D1(-4.875,-4.4) D2(-4.875,-3.6) D3(-4.875,-2.8) D4(-4.875,-2) D5(-4.875,-1.2) D8(-4.875,1.2) D9(-4.875,2) D10(-4.875,2.8) D11(-4.875,3.6) D12(-4.875,4.4) E1(-4.225,-4.4) E2(-4.225,-3.6) E3(-4.225,-2.8) E4(-4.225,-2) E5(-4.225,-1.2) E8(-4.225,1.2) E9(-4.225,2) E10(-4.225,2.8) E11(-4.225,3.6) E12(-4.225,4.4) F1(-3.575,-4.4) F2(-3.575,-3.6) F3(-3.575,-2.8) F4(-3.575,-2) F5(-3.575,-1.2) F8(-3.575,1.2) F9(-3.575,2) F10(-3.575,2.8) F11(-3.575,3.6) F12(-3.575,4.4) G1(-2.925,-4.4) G2(-2.925,-3.6) G3(-2.925,-2.8) G4(-2.925,-2) G5(-2.925,-1.2) G8(-2.925,1.2) G9(-2.925,2) G10(-2.925,2.8) G11(-2.925,3.6) G12(-2.925,4.4) H1(-2.275,-4.4) H2(-2.275,-3.6) H3(-2.275,-2.8) H4(-2.275,-2) H5(-2.275,-1.2) H8(-2.275,1.2) H9(-2.275,2) H10(-2.275,2.8) H11(-2.275,3.6) H12(-2.275,4.4) J1(-1.625,-4.4) J2(-1.625,-3.6) J3(-1.625,-2.8) J4(-1.625,-2) J5(-1.625,-1.2) J8(-1.625,1.2) J9(-1.625,2) J10(-1.625,2.8) J11(-1.625,3.6) J12(-1.625,4.4) K1(-0.975,-4.4) K2(-0.975,-3.6) K3(-0.975,-2.8) K4(-0.975,-2) K5(-0.975,-1.2) K8(-0.975,1.2) K9(-0.975,2) K10(-0.975,2.8) K11(-0.975,3.6) K12(-0.975,4.4) N1(0.975,-4.4) N2(0.975,-3.6) N3(0.975,-2.8) N4(0.975,-2) N5(0.975,-1.2) N8(0.975,1.2) N9(0.975,2) N10(0.975,2.8) N11(0.975,3.6) N12(0.975,4.4) P1(1.625,-4.4) P2(1.625,-3.6) P3(1.625,-2.8) P4(1.625,-2) P5(1.625,-1.2) P8(1.625,1.2) P9(1.625,2) P10(1.625,2.8) P11(1.625,3.6) P12(1.625,4.4) R1(2.275,-4.4) R2(2.275,-3.6) R3(2.275,-2.8) R4(2.275,-2) R5(2.275,-1.2) R8(2.275,1.2) R9(2.275,2) R10(2.275,2.8) R11(2.275,3.6) R12(2.275,4.4) T1(2.925,-4.4) T2(2.925,-3.6) T3(2.925,-2.8) T4(2.925,-2) T5(2.925,-1.2) T8(2.925,1.2) T9(2.925,2) T10(2.925,2.8) T11(2.925,3.6) T12(2.925,4.4) U1(3.575,-4.4) U2(3.575,-3.6) U3(3.575,-2.8) U4(3.575,-2) U5(3.575,-1.2) U8(3.575,1.2) U9(3.575,2) U10(3.575,2.8) U11(3.575,3.6) U12(3.575,4.4) V1(4.225,-4.4) V2(4.225,-3.6) V3(4.225,-2.8) V4(4.225,-2) V5(4.225,-1.2) V8(4.225,1.2) V9(4.225,2) V10(4.225,2.8) V11(4.225,3.6) V12(4.225,4.4) W1(4.875,-4.4) W2(4.875,-3.6) W3(4.875,-2.8) W4(4.875,-2) W5(4.875,-1.2) W8(4.875,1.2) W9(4.875,2) W10(4.875,2.8) W11(4.875,3.6) W12(4.875,4.4) Y1(5.525,-4.4) Y2(5.525,-3.6) Y3(5.525,-2.8) Y4(5.525,-2) Y5(5.525,-1.2) Y8(5.525,1.2) Y9(5.525,2) Y10(5.525,2.8) Y11(5.525,3.6) Y12(5.525,4.4)
Top Overlay:
  circle w0.1: c-6.825,-5.576 r0.05
  region: -7.576,-5.076 -7.096,-5.076 -7.576,-4.596
  lines w0.152: -7.805,-4.596 -7.805,-5.305 -7.096,-5.305 ; -7.576,-5.076 -7.576,5.076 7.576,5.076 7.576,-5.076 -7.576,-5.076
3D body: height 0.7, standoff 0.2, extent -7.496,-5.027 7.547,5.078

## FBGA-153_L13.0-W11.5-P0.50 [mm] "联系卖家 免费查找封装"
pads (153):
  round 0.25 smd mask+0.051: A1(-3.25,3.25) A2(-2.75,3.25) A3(-2.25,3.25) A4(-1.75,3.25) A5(-1.25,3.25) A6(-0.75,3.25) A7(-0.25,3.25) A8(0.25,3.25) A9(0.75,3.25) A10(1.25,3.25) A11(1.75,3.25) A12(2.25,3.25) A13(2.75,3.25) A14(3.25,3.25) B1(-3.25,2.75) B2(-2.75,2.75) B3(-2.25,2.75) B4(-1.75,2.75) B5(-1.25,2.75) B6(-0.75,2.75) B7(-0.25,2.75) B8(0.25,2.75) B9(0.75,2.75) B10(1.25,2.75) B11(1.75,2.75) B12(2.25,2.75) B13(2.75,2.75) B14(3.25,2.75) C1(-3.25,2.25) C2(-2.75,2.25) C3(-2.25,2.25) C4(-1.75,2.25) C5(-1.25,2.25) C6(-0.75,2.25) C7(-0.25,2.25) C8(0.25,2.25) C9(0.75,2.25) C10(1.25,2.25) C11(1.75,2.25) C12(2.25,2.25) C13(2.75,2.25) C14(3.25,2.25) D1(-3.25,1.75) D2(-2.75,1.75) D3(-2.25,1.75) D4(-1.75,1.75) D12(2.25,1.75) D13(2.75,1.75) D14(3.25,1.75) E1(-3.25,1.25) E2(-2.75,1.25) E3(-2.25,1.25) E5(-1.25,1.25) E6(-0.75,1.25) E7(-0.25,1.25) E8(0.25,1.25) E9(0.75,1.25) E10(1.25,1.25) E12(2.25,1.25) E13(2.75,1.25) E14(3.25,1.25) F1(-3.25,0.75) F2(-2.75,0.75) F3(-2.25,0.75) F5(-1.25,0.75) F10(1.25,0.75) F12(2.25,0.75) F13(2.75,0.75) F14(3.25,0.75) G1(-3.25,0.25) G2(-2.75,0.25) G3(-2.25,0.25) G5(-1.25,0.25) G10(1.25,0.25) G12(2.25,0.25) G13(2.75,0.25) G14(3.25,0.25) H1(-3.25,-0.25) H2(-2.75,-0.25) H3(-2.25,-0.25) H5(-1.25,-0.25) H10(1.25,-0.25) H12(2.25,-0.25) H13(2.75,-0.25) H14(3.25,-0.25) J1(-3.25,-0.75) J2(-2.75,-0.75) J3(-2.25,-0.75) J5(-1.25,-0.75) J10(1.25,-0.75) J12(2.25,-0.75) J13(2.75,-0.75) J14(3.25,-0.75) K1(-3.25,-1.25) K2(-2.75,-1.25) K3(-2.25,-1.25) K5(-1.25,-1.25) K6(-0.75,-1.25) K7(-0.25,-1.25) K8(0.25,-1.25) K9(0.75,-1.25) K10(1.25,-1.25) K12(2.25,-1.25) K13(2.75,-1.25) K14(3.25,-1.25) L1(-3.25,-1.75) L2(-2.75,-1.75) L3(-2.25,-1.75) L12(2.25,-1.75) L13(2.75,-1.75) L14(3.25,-1.75) M1(-3.25,-2.25) M2(-2.75,-2.25) M3(-2.25,-2.25) M4(-1.75,-2.25) M5(-1.25,-2.25) M6(-0.75,-2.25) M7(-0.25,-2.25) M8(0.25,-2.25) M9(0.75,-2.25) M10(1.25,-2.25) M11(1.75,-2.25) M12(2.25,-2.25) M13(2.75,-2.25) M14(3.25,-2.25) N1(-3.25,-2.75) N2(-2.75,-2.75) N3(-2.25,-2.75) N4(-1.75,-2.75) N5(-1.25,-2.75) N6(-0.75,-2.75) N7(-0.25,-2.75) N8(0.25,-2.75) N9(0.75,-2.75) N10(1.25,-2.75) N11(1.75,-2.75) N12(2.25,-2.75) N13(2.75,-2.75) N14(3.25,-2.75) P1(-3.25,-3.25) P2(-2.75,-3.25) P3(-2.25,-3.25) P4(-1.75,-3.25) P5(-1.25,-3.25) P6(-0.75,-3.25) P7(-0.25,-3.25) P8(0.25,-3.25) P9(0.75,-3.25) P10(1.25,-3.25) P11(1.75,-3.25) P12(2.25,-3.25) P13(2.75,-3.25) P14(3.25,-3.25)
Top Overlay:
  circle w0.254: c-5.334,5.969 r0.127
  lines w0.203: -5.841,-6.605 5.843,-6.605 5.843,5.079 ; -5.841,-6.5 -5.841,6.5 5.842,6.5 5.842,5.079
  lines w0.254: -6.223,5.715 -6.223,6.858 -4.953,6.858
3D body: height 1.1, standoff 0, extent -5.75,-6.5 5.75,6.5

## LFBGA100 [mm] "BGA, 100-Leads, Body 10x10mm, Pitch 0.8mmhttps://shop463601444.taobao.com"
height 1.7
pads (100):
  round 0.45 smd: A1(-3.6,3.6) A2(-2.8,3.6) A3(-2,3.6) A4(-1.2,3.6) A5(-0.4,3.6) A6(0.4,3.6) A7(1.2,3.6) A8(2,3.6) A9(2.8,3.6) A10(3.6,3.6) B1(-3.6,2.8) B2(-2.8,2.8) B3(-2,2.8) B4(-1.2,2.8) B5(-0.4,2.8) B6(0.4,2.8) B7(1.2,2.8) B8(2,2.8) B9(2.8,2.8) B10(3.6,2.8) C1(-3.6,2) C2(-2.8,2) C3(-2,2) C4(-1.2,2) C5(-0.4,2) C6(0.4,2) C7(1.2,2) C8(2,2) C9(2.8,2) C10(3.6,2) D1(-3.6,1.2) D2(-2.8,1.2) D3(-2,1.2) D4(-1.2,1.2) D5(-0.4,1.2) D6(0.4,1.2) D7(1.2,1.2) D8(2,1.2) D9(2.8,1.2) D10(3.6,1.2) E1(-3.6,0.4) E2(-2.8,0.4) E3(-2,0.4) E4(-1.2,0.4) E5(-0.4,0.4) E6(0.4,0.4) E7(1.2,0.4) E8(2,0.4) E9(2.8,0.4) E10(3.6,0.4) F1(-3.6,-0.4) F2(-2.8,-0.4) F3(-2,-0.4) F4(-1.2,-0.4) F5(-0.4,-0.4) F6(0.4,-0.4) F7(1.2,-0.4) F8(2,-0.4) F9(2.8,-0.4) F10(3.6,-0.4) G1(-3.6,-1.2) G2(-2.8,-1.2) G3(-2,-1.2) G4(-1.2,-1.2) G5(-0.4,-1.2) G6(0.4,-1.2) G7(1.2,-1.2) G8(2,-1.2) G9(2.8,-1.2) G10(3.6,-1.2) H1(-3.6,-2) H2(-2.8,-2) H3(-2,-2) H4(-1.2,-2) H5(-0.4,-2) H6(0.4,-2) H7(1.2,-2) H8(2,-2) H9(2.8,-2) H10(3.6,-2) J1(-3.6,-2.8) J2(-2.8,-2.8) J3(-2,-2.8) J4(-1.2,-2.8) J5(-0.4,-2.8) J6(0.4,-2.8) J7(1.2,-2.8) J8(2,-2.8) J9(2.8,-2.8) J10(3.6,-2.8) K1(-3.6,-3.6) K2(-2.8,-3.6) K3(-2,-3.6) K4(-1.2,-3.6) K5(-0.4,-3.6) K6(0.4,-3.6) K7(1.2,-3.6) K8(2,-3.6) K9(2.8,-3.6) K10(3.6,-3.6)
Top Overlay:
  circle w0.25: c-5.65,4.85 r0.125
  region: -4,5 -5,4 -5,5
  lines w0.2: -5,4 -4,5 ; -5,-5 -5,5 5,5 5,-5 -5,-5
Mechanical 13:
  lines w0.1: -5,-5 -5,5 5,5 5,-5 -5,-5
Mechanical 15:
  lines w0.05: -6,-6 -6,6 6,6 6,-6 -6,-6
  lines w0.1: -0.5,0 0.5,0 ; 0,-0.5 0,0.5
3D body: height 1.7, standoff 0, extent -5,-5 5,5

## LFBGA144 [mm] "BGA, 144-Leads, Body 10x10mm, Pitch 0.8mm"
height 1.7
pads (144):
  round 0.35 smd: A1(-4.4,4.4) A2(-3.6,4.4) A3(-2.8,4.4) A4(-2,4.4) A5(-1.2,4.4) A6(-0.4,4.4) A7(0.4,4.4) A8(1.2,4.4) A9(2,4.4) A10(2.8,4.4) A11(3.6,4.4) A12(4.4,4.4) B1(-4.4,3.6) B2(-3.6,3.6) B3(-2.8,3.6) B4(-2,3.6) B5(-1.2,3.6) B6(-0.4,3.6) B7(0.4,3.6) B8(1.2,3.6) B9(2,3.6) B10(2.8,3.6) B11(3.6,3.6) B12(4.4,3.6) C1(-4.4,2.8) C2(-3.6,2.8) C3(-2.8,2.8) C4(-2,2.8) C5(-1.2,2.8) C6(-0.4,2.8) C7(0.4,2.8) C8(1.2,2.8) C9(2,2.8) C10(2.8,2.8) C11(3.6,2.8) C12(4.4,2.8) D1(-4.4,2) D2(-3.6,2) D3(-2.8,2) D4(-2,2) D5(-1.2,2) D6(-0.4,2) D7(0.4,2) D8(1.2,2) D9(2,2) D10(2.8,2) D11(3.6,2) D12(4.4,2) E1(-4.4,1.2) E2(-3.6,1.2) E3(-2.8,1.2) E4(-2,1.2) E5(-1.2,1.2) E6(-0.4,1.2) E7(0.4,1.2) E8(1.2,1.2) E9(2,1.2) E10(2.8,1.2) E11(3.6,1.2) E12(4.4,1.2) F1(-4.4,0.4) F2(-3.6,0.4) F3(-2.8,0.4) F4(-2,0.4) F5(-1.2,0.4) F6(-0.4,0.4) F7(0.4,0.4) F8(1.2,0.4) F9(2,0.4) F10(2.8,0.4) F11(3.6,0.4) F12(4.4,0.4) G1(-4.4,-0.4) G2(-3.6,-0.4) G3(-2.8,-0.4) G4(-2,-0.4) G5(-1.2,-0.4) G6(-0.4,-0.4) G7(0.4,-0.4) G8(1.2,-0.4) G9(2,-0.4) G10(2.8,-0.4) G11(3.6,-0.4) G12(4.4,-0.4) H1(-4.4,-1.2) H2(-3.6,-1.2) H3(-2.8,-1.2) H4(-2,-1.2) H5(-1.2,-1.2) H6(-0.4,-1.2) H7(0.4,-1.2) H8(1.2,-1.2) H9(2,-1.2) H10(2.8,-1.2) H11(3.6,-1.2) H12(4.4,-1.2) J1(-4.4,-2) J2(-3.6,-2) J3(-2.8,-2) J4(-2,-2) J5(-1.2,-2) J6(-0.4,-2) J7(0.4,-2) J8(1.2,-2) J9(2,-2) J10(2.8,-2) J11(3.6,-2) J12(4.4,-2) K1(-4.4,-2.8) K2(-3.6,-2.8) K3(-2.8,-2.8) K4(-2,-2.8) K5(-1.2,-2.8) K6(-0.4,-2.8) K7(0.4,-2.8) K8(1.2,-2.8) K9(2,-2.8) K10(2.8,-2.8) K11(3.6,-2.8) K12(4.4,-2.8) L1(-4.4,-3.6) L2(-3.6,-3.6) L3(-2.8,-3.6) L4(-2,-3.6) L5(-1.2,-3.6) L6(-0.4,-3.6) L7(0.4,-3.6) L8(1.2,-3.6) L9(2,-3.6) L10(2.8,-3.6) L11(3.6,-3.6) L12(4.4,-3.6) M1(-4.4,-4.4) M2(-3.6,-4.4) M3(-2.8,-4.4) M4(-2,-4.4) M5(-1.2,-4.4) M6(-0.4,-4.4) M7(0.4,-4.4) M8(1.2,-4.4) M9(2,-4.4) M10(2.8,-4.4) M11(3.6,-4.4) M12(4.4,-4.4)
Top Overlay:
  circle w0.25: c-5.65,4.85 r0.125
  region: -4.684,5 -5,4.684 -5,5
  lines w0.2: -5,4.684 -4.684,5 ; -5,-5 -5,5 5,5 5,-5 -5,-5
Mechanical 13:
  lines w0.1: -5,-5 -5,5 5,5 5,-5 -5,-5
Mechanical 15:
  lines w0.05: -6,-6 -6,6 6,6 6,-6 -6,-6
  lines w0.1: -0.5,0 0.5,0 ; 0,-0.5 0,0.5
3D body: height 1.7, standoff 0, extent -5,-5 5,5

## LGA-10 [mm] "3X3mm"
height 0.9
pads (10):
  rect 0.475x0.35 smd mask+0.07: 1(-1.2,0.975) 2(-1.2,0.325) 3(-1.2,-0.325) 4(-1.2,-0.975) 6(1.2,-0.975) 7(1.2,-0.325) 8(1.2,0.325) 9(1.2,0.975)
  rect 0.35x0.475 smd mask+0.07: 5(0,-1.2) 10(0,1.2)
Top Overlay:
  circle w0.254: c-1.88,0.991 r0.127
Top Solder:
  region: -1.27,-1.524 -1.524,-1.524 -1.524,-1.27 -1.651,-1.27 -1.651,-1.651 -1.27,-1.651
  region: 1.524,-1.27 1.524,-1.524 1.27,-1.524 1.27,-1.651 1.651,-1.651 1.651,-1.27
  region: 1.27,1.524 1.524,1.524 1.524,1.27 1.651,1.27 1.651,1.651 1.27,1.651
  region: -1.524,1.27 -1.524,1.524 -1.27,1.524 -1.27,1.651 -1.651,1.651 -1.651,1.27
Mechanical 14:
  circle w0.01: c0,0 r0.491
  lines w0.05: -0.635,0 0.635,0 ; 0,-0.635 0,0.635
Mechanical 15:
  lines w0.03: -1.5,-1.5 1.5,-1.5 1.5,1.5 -1.5,1.5 -1.5,-1.5
3D body: height 0.91, standoff 0, extent -1.5,-1.5 1.5,1.5

## LGA-12 [mm] "2X2mm"
height 0.8
pads (12):
  rect 0.28x0.31 smd mask+0.07: 1(-0.75,-0.75) 2(-0.25,-0.75) 3(0.25,-0.75) 4(0.75,-0.75) 7(0.75,0.75) 8(0.254,0.75) 9(-0.229,0.75) 10(-0.75,0.75)
  rect 0.31x0.28 smd mask+0.07: 5(0.75,-0.25) 6(0.75,0.25) 11(-0.75,0.25) 12(-0.75,-0.25)
Top Overlay:
  circle w0.254: c-0.762,-1.27 r0.127
  lines w0.15: -1.067,-1.067 -1.067,1.067 1.067,1.067 1.067,-1.067 -1.067,-1.067
Mechanical 14:
  circle w0.01: c0,0 r0.491
  lines w0.05: -0.635,0 0.635,0 ; 0,-0.635 0,0.635
Mechanical 15:
  lines w0.03: -1,-1 -1,1 1,1 1,-1 -1,-1
3D body: height 0.96, standoff 0, extent -1,-1 1,1